# Altium integrated library IRGS4607DPBF.IntLib: 1 symbol
Pins are listed as number, name and electrical type; pins without a type are passive.

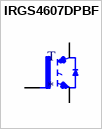
[diagram p0: symbol IRGS4607DPBF]

## IRGS4607DPBF
designator T
IGBT 600V 11A 58W Surface Mount D2PAK; MF: Infineon Technologies; MP: IRGS4607DPBF; Price: None; Availability: Unavailable; Package: D2PAK Infineon; SnapEDA_Link: https://www.snapeda.com/parts/IRGS4607DPBF/Infineon%20Technologies/view-part/666171/?ref=snap; Value: *
footprint D2PACK
pins: 1 G, 2 C, 3 E